# EAGLE library part LINEAR,VGA,#2 (library QuantumOptics)
VCA82x, Variable Gain Amp, T.I., various dB/V and V/V. e.g. VCA822, VCA824. Example http://focus.ti.com/docs/prod/folders/print/vca822.html
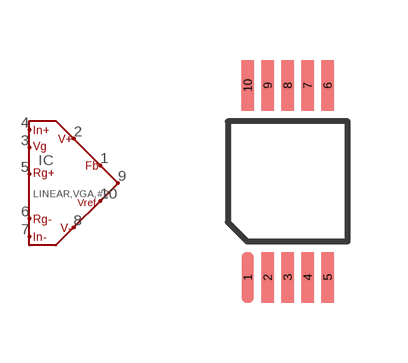
[diagram p152: symbol with the pads of MSOP10; footprint MSOP10]

Designator prefix IC

## LINEAR,VGA,#2-MSOP10  [MSOP10]
1  FB  in
2  V+  pwr
3  VG  in
4  IN+  in
5  RG+
6  RG-
7  IN-  in
8  V-  pwr
9  OUT  out
10  VREF

## Footprint MSOP10 (pad centres in mm)
MSOP-10, JEDEC MO-187AB. Sameas Maxim's µsop-10 and TI's VSSOP DGA (S-PDSO-G10).
smd 0.305 x 1.27: 1 -1,-2.4; 2 -0.5,-2.4; 3 0,-2.4; 4 0.5,-2.4; 5 1,-2.4; 6 1,2.4; 7 0.5,2.4; 8 0,2.4; 9 -0.5,2.4; 10 -1,2.4